# Altium footprint library CAP-RADIAL.PcbLib: 1 footprints
Each footprint in its own frame and in the unit in brackets; x right, y up, seen from the top. Pads: shape width x height; smd on the part's side, far side on the other; paste and mask are expansions set on the pad; w line width, h text height; cw(c..) or ccw(c..) is an arc to the next point about the centre after c.
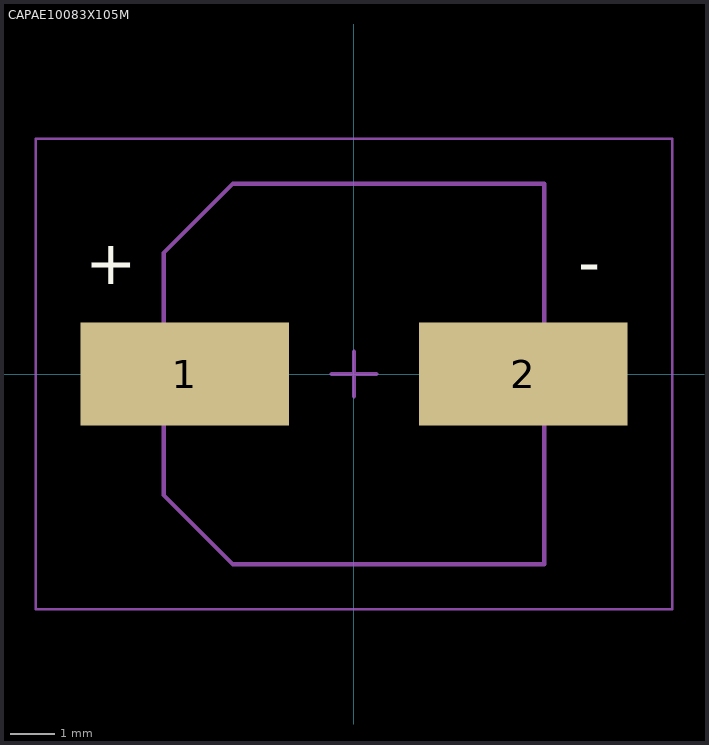
[diagram p0: the footprint, top view; thin cyan lines are the x and y axes]

## CAPAE10083X105M [mm] "Aluminum Electrolytic Capacitor, Body 8.30x8.30x10.50mm, IPC Low Density"
height 10.5
pads (2):
  rect 4.65x2.3 smd: 1(-3.775,0) 2(3.775,0)
Top Overlay:
  text "-" at 5,2 h1
  text "+" at -6,2 h1
Mechanical 13:
  lines w0.1: -4.25,-2.7 -2.7,-4.25 4.25,-4.25 4.25,4.25 -2.7,4.25 -4.25,2.7 -4.25,-2.7
Mechanical 15:
  lines w0.05: -7.1,-5.25 -7.1,5.25 7.1,5.25 7.1,-5.25 -7.1,-5.25
  lines w0.1: -0.5,0 0.5,0 ; 0,-0.5 0,0.5
3D body: height 3.5, standoff 0, extent -4.25,-4.25 4.25,4.25
3D body: height 10.5, standoff 0, extent -4.25,-4.25 4.25,4.25